# Altium footprint library Fuse Footprints.PcbLib: 3 footprints
Each footprint in its own frame and in the unit in brackets; x right, y up, seen from the top. Pads: shape width x height; smd on the part's side, far side on the other; paste and mask are expansions set on the pad; w line width, h text height; cw(c..) or ccw(c..) is an arc to the next point about the centre after c.
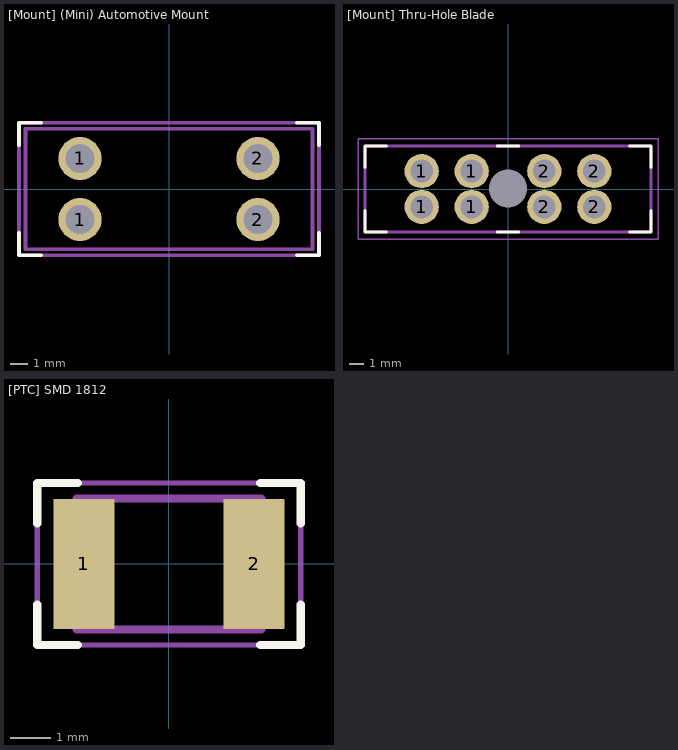
[diagram p0: the footprints below, top view; thin cyan lines are the x and y axes]

## [Mount] (Mini) Automotive Mount [mm] "3568"
pads (4):
  round 2.4 hole 1.6: 1(-4.96,-1.7) 1(-4.96,1.7) 2(4.96,-1.7) 2(4.96,1.7)
Top Overlay:
  lines w0.2: -8.36,-2.45 -8.36,-3.7 -7.11,-3.7 ; -8.36,2.45 -8.36,3.7 -7.11,3.7 ; 7.11,-3.7 8.36,-3.7 8.36,-2.45 ; 7.11,3.7 8.36,3.7 8.36,2.45
Physical Outline:
  lines w0.2: -8,-3.365 8,-3.365 8,3.365 -8,3.365 -8,-3.365
Part Border:
  lines w0.2: -8.36,-3.7 -8.36,3.7 8.36,3.7 8.36,-3.7 -8.36,-3.7
3D body "3568.stp": height 7.6, standoff -2.56, extent -8,-3.365 8,3.365

## [Mount] Thru-Hole Blade [mm]
pads (9):
  round 2.4 hole 1.6: 1(-6.04,-1.25) 1(-6.04,1.25) 1(-2.54,-1.25) 1(-2.54,1.25) 2(2.54,-1.25) 2(2.54,1.25) 2(6.04,-1.25) 2(6.04,1.25)
  round 1.325 hole 2.65 unplated: ""(0,0.045)
Top Overlay:
  lines w0.2: -10,-1.5 -10,-3 -8.5,-3 ; -10,1.5 -10,3 -8.5,3 ; -0.75,-3 0.75,-3 ; -0.75,3 0.75,3 ; 8.5,-3 10,-3 10,-1.5 ; 8.5,3 10,3 10,1.5
Physical Outline:
  lines w0.2: -10,-3 10,-3 10,3 -10,3 -10,-3
Part Border:
  lines w0.1: -10.5,-3.5 10.5,-3.5 10.5,3.5 -10.5,3.5 -10.5,-3.5
3D body "178.6165.0002.stp": height 18.03, standoff -3.57, extent -10,-3 10,3

## [PTC] SMD 1812 [mm]
pads (2):
  rect 1.5x3.2 smd: 1(-2.1,0) 2(2.1,0)
Top Overlay:
  lines w0.2: -3.25,-1 -3.25,-2 -2.25,-2 ; -3.25,1 -3.25,2 -2.25,2 ; 2.25,-2 3.25,-2 3.25,-1 ; 2.25,2 3.25,2 3.25,1
Physical Outline:
  lines w0.2: -2.275,-1.62 -2.275,1.62 2.275,1.62 2.275,-1.62 -2.275,-1.62
Part Border:
  lines w0.127: -3.25,-2 3.25,-2 3.25,2 -3.25,2 -3.25,-2
3D body "SMD 500mA Resetable Fuse (MF-MSMF050-2).STEP": height 1.1, standoff 0, extent -2.275,-1.62 2.275,1.62